# Altium schematic symbol library SCH - OPAMP - AD8662ARZ.SchLib: 1 symbol
Pins are listed as number, name and electrical type; pins without a type are passive.

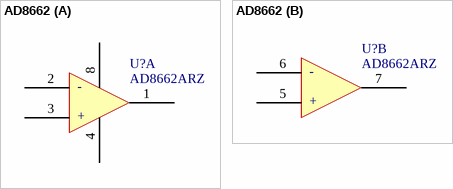
[diagram p0: symbol AD8662]

## AD8662
designator U?, comment AD8662ARZ
IC OPAMP GP 2 CIRCUIT 14SOIC; MF: Analog Devices; MPN: AD8662ARZ; Supplier Part Number 2: AD8662ARZ-ND; Package: SOIC-8; Supplier 1: Mouser; Supplier 2: Digi-Key; Supplier Part Number 1: 584-AD8662ARZ
footprint SOIC8_N (SOIC, 8-Leads, Body 4.9x3.9mm, Pitch 1.27mm, IPC Medium Density)
part A pins: 1 out a, 2 -in a, 3 +in a, 4 v+, 8 v-
part B pins: 5 +in b, 6 -in b, 7 out b
part A text: -; +
part B text: -; +